# Altium schematic symbol library USB-C_CONN.SchLib: 1 symbol
Pins are listed as number, name and electrical type; pins without a type are passive.

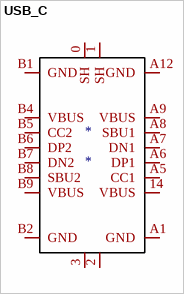
[diagram p0: symbol USB_C]

## USB_C
designator *
TYPE-C-31-M-12
footprint PCBComponent_1 (USB-C_SMD-TYPE-C-31-M-12)
pins: 0 SH, 1 SH, 2, 3, 14 VBUS, A1 GND, A5 CC1, A6 DP1, A7 DN1, A8 SBU1, A9 VBUS, A12 GND, B1 GND, B2 GND, B4 VBUS, B5 CC2, B6 DP2, B7 DN2, B8 SBU2, B9 VBUS